# Altium footprint library NeoIVClock.PcbLib: 43 footprints (part 2 of 3)
Each footprint in its own frame and in the unit in brackets; x right, y up, seen from the top. Pads: shape width x height; smd on the part's side, far side on the other; paste and mask are expansions set on the pad; w line width, h text height; cw(c..) or ccw(c..) is an arc to the next point about the centre after c.
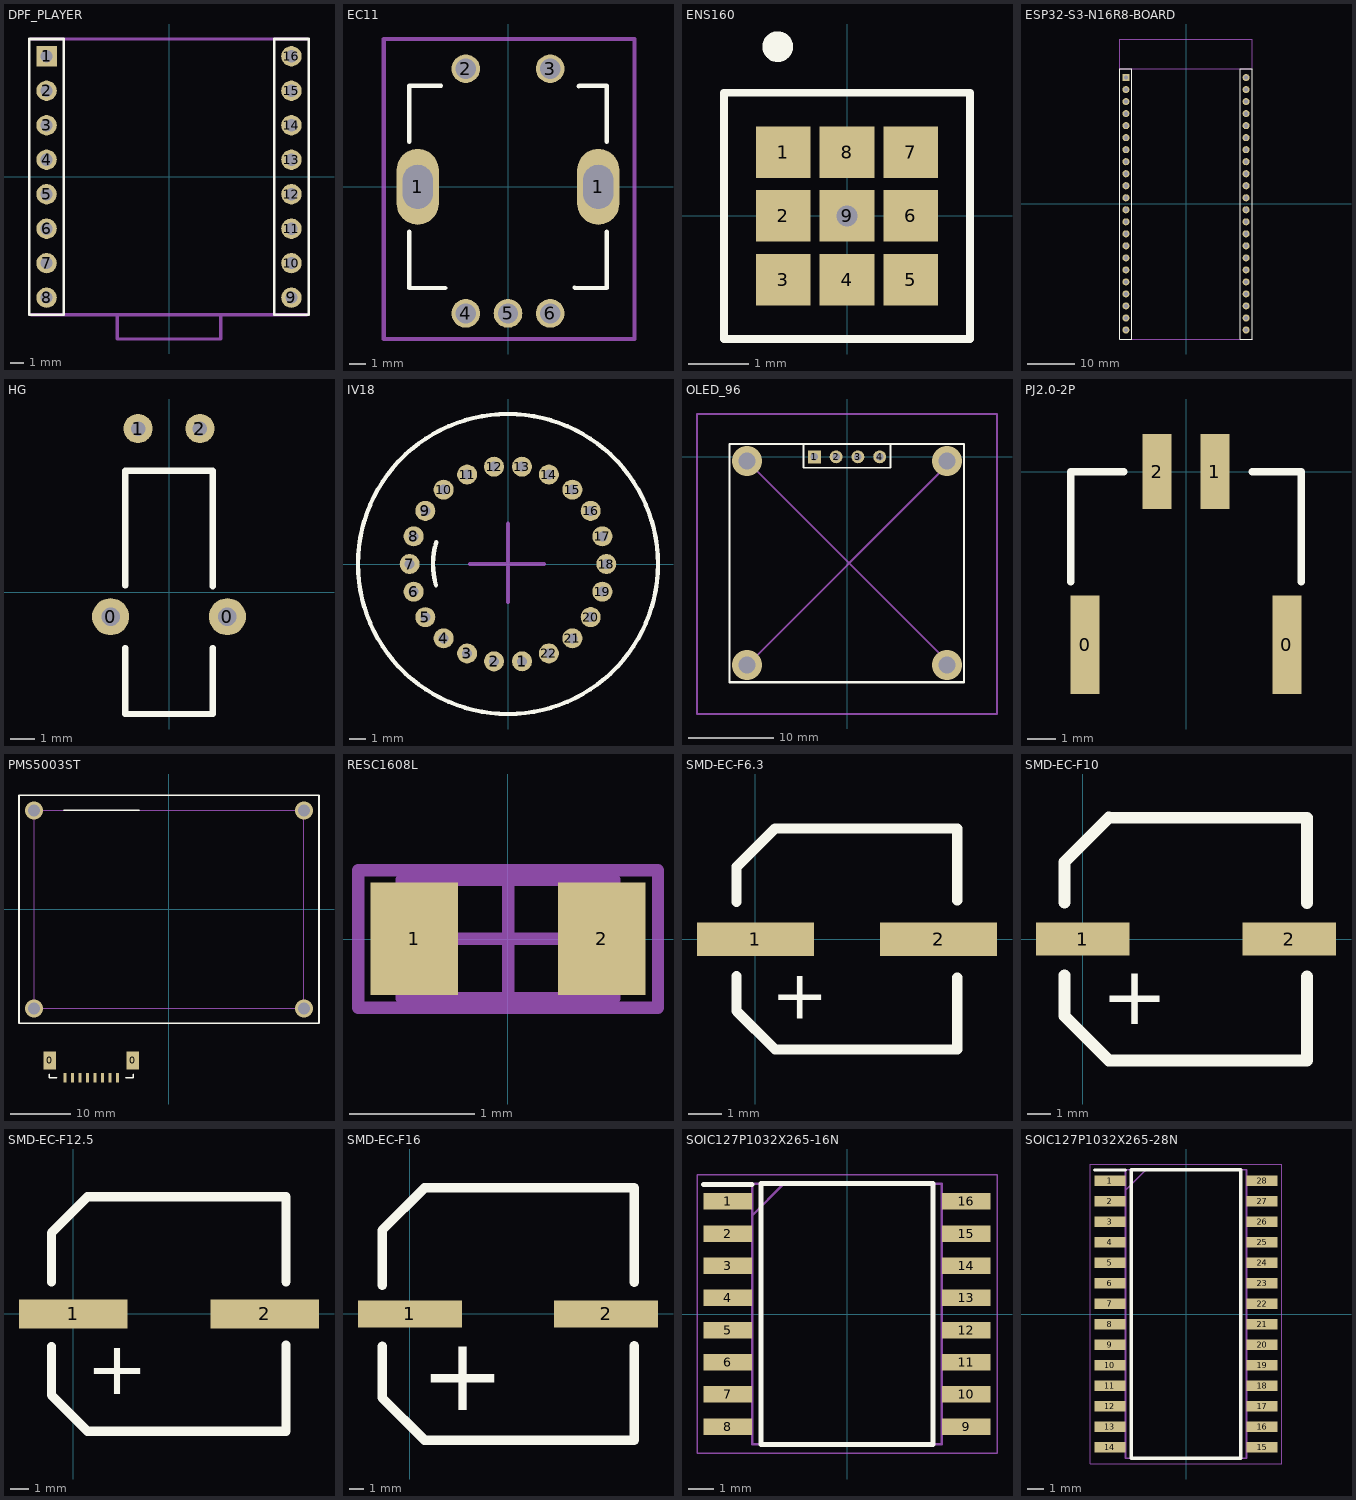
[diagram p1: the footprints below, top view; thin cyan lines are the x and y axes]

## DPF_PLAYER [mm] "DPF_PLAYER"
pads (16):
  rect 1.5x1.5 hole 0.9: 1(-9.017,8.89)
  round 1.5 hole 0.9: 2(-9.017,6.35) 3(-9.017,3.81) 4(-9.017,1.27) 5(-9.017,-1.27) 6(-9.017,-3.81) 7(-9.017,-6.35) 8(-9.017,-8.89) 9(9.017,-8.89) 10(9.017,-6.35) 11(9.017,-3.81) 12(9.017,-1.27) 13(9.017,1.27) 14(9.017,3.81) 15(9.017,6.35) 16(9.017,8.89)
Top Overlay:
  lines w0.2: -10.287,-10.16 -10.287,10.16 -7.747,10.16 -7.747,-10.16 -10.287,-10.16 ; 7.747,-10.16 10.287,-10.16 10.287,10.16 7.747,10.16 7.747,-10.16
Mechanical 1:
  lines w0.254: -10.16,-10.16 10.16,-10.16 ; -10.16,10.16 10.16,10.16 ; -3.81,-10.16 -3.81,-11.938 3.81,-11.938 3.81,-10.16

## EC11 [mm] "EC11"
pads (7):
  oval 2.5x4.5 hole 1.8 slot 2.6 at 90 deg: 1(-5.35,0) 1(5.35,0)
  round 1.7 hole 1.2: 2(-2.5,7) 3(2.5,7) 4(-2.5,-7.5) 5(0,-7.5) 6(2.5,-7.5)
Top Overlay:
  lines w0.254: -5.85,-2.667 -5.85,-6 -3.714,-6 ; -5.85,2.667 -5.85,6 -3.968,6 ; 3.937,-5.969 3.968,-6 5.85,-6 5.85,-2.667 ; 4.191,5.969 4.222,6 5.85,6 5.85,2.667
Mechanical 15:
  lines w0.254: -7.366,-9.017 7.493,-9.017 7.493,8.763 -7.366,8.763 -7.366,-9.017
3D body: height 5, standoff 0, extent -5.842,-5.969 5.842,5.969

## ENS160 [mm]
pads (9):
  rect 0.9x0.85 smd mask+0: 1(-1.05,1.05) 2(-1.05,0) 3(-1.05,-1.05) 4(0,-1.05) 5(1.05,-1.05) 6(1.05,0) 7(1.05,1.05) 8(0,1.05) 9(0,0)
via 0,0 diameter 0.61 hole 0.35
Top Overlay:
  circle w0.254: c-1.143,2.794 r0.127
  lines w0.127: -2.032,-2.032 2.032,-2.032 2.032,2.032 -2.032,2.032 -2.032,-2.032
3D body: height 0.9, standoff 0, extent -1.651,-1.778 1.651,1.778

## ESP32-S3-N16R8-BOARD [mm]
pads (44):
  rect 1.5x1.5 hole 0.9: 1(-12.7,26.67)
  round 1.5 hole 0.9: 2(-12.7,24.13) 3(-12.7,21.59) 4(-12.7,19.05) 5(-12.7,16.51) 6(-12.7,13.97) 7(-12.7,11.43) 8(-12.7,8.89) 9(-12.7,6.35) 10(-12.7,3.81) 11(-12.7,1.27) 12(-12.7,-1.27) 13(-12.7,-3.81) 14(-12.7,-6.35) 15(-12.7,-8.89) 16(-12.7,-11.43) 17(-12.7,-13.97) 18(-12.7,-16.51) 19(-12.7,-19.05) 20(-12.7,-21.59) 21(-12.7,-24.13) 22(-12.7,-26.67) 23(12.7,-26.67) 24(12.7,-24.13) 25(12.7,-21.59) 26(12.7,-19.05) 27(12.7,-16.51) 28(12.7,-13.97) 28(12.7,-11.43) 30(12.7,-8.89) 31(12.7,-6.35) 32(12.7,-3.81) 33(12.7,-1.27) 34(12.7,1.27) 35(12.7,3.81) 36(12.7,6.35) 37(12.7,8.89) 38(12.7,11.43) 39(12.7,13.97) 40(12.7,16.51) 41(12.7,19.05) 42(12.7,21.59) 43(12.7,24.13) 44(12.7,26.67)
Top Overlay:
  lines w0.2: -13.97,-28.575 -13.97,28.575 -11.43,28.575 -11.43,26.035 -11.43,-28.575 -13.97,-28.575 ; 11.43,-28.575 11.43,28.575 13.97,28.575 13.97,26.035 13.97,-28.575 11.43,-28.575
  lines w0.254: -13.97,-28.575 -13.97,28.575 ; 13.97,-28.575 13.97,28.575
Mechanical 1:
  lines w0.254: -13.97,-28.575 13.97,-28.575 ; -13.97,28.575 13.97,28.575 13.97,34.823 -13.97,34.823 -13.97,28.575

## HG [mm] "HG Switch"
pads (4):
  round 1.524 hole 0.762: 0(-2.4,-1) 0(2.4,-1)
  round 1.2 hole 0.6: 1(-1.27,6.731) 2(1.27,6.731)
Top Overlay:
  lines w0.254: -1.8,-2.286 -1.8,-5 1.8,-5 1.778,-4.978 ; -1.8,0.276 -1.8,5 1.8,5 1.8,0.254 ; 1.8,-4.978 1.8,-2.286

## IV18 [mm] "IV18"
pads (22):
  round 1.2 hole 0.6: 1(0.84,-5.84) 2(-0.839,-5.84) 3(-2.45,-5.367) 4(-3.863,-4.459) 5(-4.963,-3.19) 6(-5.661,-1.663) 7(-5.9,0) 8(-5.661,1.662) 9(-4.964,3.189) 10(-3.864,4.459) 11(-2.451,5.367) 12(-0.84,5.84) 13(0.839,5.84) 14(2.451,5.367) 15(3.864,4.459) 16(4.963,3.19) 17(5.661,1.662) 18(5.9,0) 19(5.661,-1.661) 20(4.964,-3.189) 21(3.864,-4.458) 22(2.452,-5.367)
Top Overlay:
  circle w0.254: c0,0 r9
  lines w0.254: -4.318,-1.27 cw(c0,0) -4.307,1.305
Mechanical 15:
  lines w0.254: -2.286,0 0,0 ; 0,-2.286 0,0 ; 0,2.413 0,0 ; 2.159,0 0,0

## OLED_96 [mm] "OLED_96"
pads (4):
  rect 1.5x1.5 hole 0.9: 1(-3.81,0)
  round 1.5 hole 0.9: 2(-1.27,0) 3(1.27,0) 4(3.81,0)
via 11.65,-24.3 diameter 3.5 hole 2
via -11.65,-24.3 diameter 3.5 hole 2
via 11.65,-0.5 diameter 3.5 hole 2
via -11.65,-0.5 diameter 3.5 hole 2
Top Overlay:
  lines w0.2: -5.08,-1.27 -5.08,1.524 5.08,1.524 5.08,-1.27 -5.08,-1.27
  lines w0.254: -13.716,-26.3 -13.716,1.5 ; -13.65,-26.3 13.65,-26.3 13.65,1.5 -13.65,1.5
Mechanical 15:
  lines w0.254: -11.65,-24.3 11.65,-1 11.65,-0.5 ; -11.65,-1 -11.65,-0.5 11.65,-23.8 11.65,-24.3 ; -17.5,-30 17.5,-30 17.5,5 -17.5,5 -17.5,-30
3D body: height 2.7, standoff 0, extent -13.716,-26.289 13.716,1.567

## PJ2.0-2P [mm] "PJ2.0-2P"
pads (4):
  rect 1x3.4 smd: 0(-3.5,-6) 0(3.5,-6)
  rect 1x2.6 smd: 1(1,0) 2(-1,0)
Top Overlay:
  lines w0.254: -4,-3.81 -4,0 -2.159,0 ; 2.286,0 3.968,0 ; 4,-3.81 4,0
3D body: height 5.7, standoff 0, extent -3.937,-7.493 3.937,0

## PMS5003ST [mm]
pads (10):
  rect 2.1x3 smd: 0(-19.879,-25.146) 0(-6.029,-25.146)
  rect 0.5x1.6 smd: 1(-17.329,-28.046) 2(-16.079,-28.046) 3(-14.829,-28.046) 4(-13.579,-28.046) 5(-12.329,-28.046) 6(-11.079,-28.046) 7(-9.829,-28.046) 8(-8.579,-28.046)
via 22.5,16.5 diameter 3 hole 2
via -22.5,16.5 diameter 3 hole 2
via -22.5,-16.5 diameter 3 hole 2
via 22.5,-16.5 diameter 3 hole 2
Top Overlay:
  lines w0.254: -19.939,-27.432 -19.939,-28.067 -18.669,-28.067 ; -17.526,16.51 -4.953,16.51 ; -7.239,-28.067 -5.969,-28.067 -5.969,-27.432 ; -25,-19 25,-19 25,19 -25,19 -25,-19
Mechanical 15:
  lines w0.127: -22.5,-16.5 22.5,-16.5 22.5,16.5 -22.5,16.5 -22.5,-16.5

## RESC1608L [mm] "Chip Resistor, Body 1.6x0.8mm, IPC High Density"
height 0.6
pads (2):
  rect 0.7x0.9 smd: 1(-0.75,0) 2(0.75,0)
Mechanical 13:
  lines w0.1: -0.85,-0.475 0.85,-0.475 0.85,0.475 -0.85,0.475 -0.85,-0.475
Mechanical 15:
  lines w0.1: -0.475,0 0.475,0 ; 0,-0.475 0,0.475 ; -1.2,-0.55 1.2,-0.55 1.2,0.55 -1.2,0.55 -1.2,-0.55
3D body: height 0.6, standoff 0, extent -0.85,-0.475 0.85,0.475

## SMD-EC-F6.3 [mm]
pads (2):
  rect 3.5x1 smd: 1(0,0) 2(5.475,0)
Top Overlay:
  lines w0.305: -0.564,-1.103 -0.564,-2.152 0.587,-3.303 ; -0.564,1.11 -0.564,2.163 0.587,3.314 ; 0.589,-3.305 6.036,-3.305 6.036,-1.15 ; 0.592,3.309 6.036,3.309 6.036,1.16
  text "+" at 0.472,-2.377 h1.5

## SMD-EC-F10 [mm]
pads (2):
  rect 4x1.4 smd: 1(0,0) 2(8.86,0)
Top Overlay:
  lines w0.508: -0.778,-1.551 -0.778,-3.304 1.12,-5.201 9.62,-5.201 9.62,-1.6 ; -0.778,1.572 -0.778,3.306 1.12,5.203 ; 1.123,5.2 9.62,5.2 9.62,1.548
  text "+" at 0.798,-3.656 h2.5

## SMD-EC-F12.5 [mm]
pads (2):
  rect 6x1.6 smd: 1(0,0) 2(10.625,0)
Top Overlay:
  lines w0.508: -1.202,-1.796 -1.202,-4.498 0.799,-6.499 11.797,-6.499 11.797,-1.72 ; -1.202,1.77 -1.202,4.494 0.797,6.493 0.799,6.495 11.797,6.495 11.797,1.781
  text "+" at 0.726,-4.45 h3

## SMD-EC-F16 [mm]
pads (2):
  rect 7x1.8 smd: 1(0,0) 2(13.215,0)
Top Overlay:
  lines w0.635: -1.877,-2.165 -1.877,-5.642 0.981,-8.5 15.123,-8.5 ; -1.877,1.93 -1.877,5.638 0.981,8.497 15.123,8.497 15.122,8.496 15.122,2.145 ; 15.122,-8.499 15.123,-8.5 ; 15.123,-2.131 15.123,-8.5
  text "+" at 0.702,-6.494 h5

## SOIC127P1032X265-16N [mm]
pads (16):
  rect 1.925x0.65 smd: 1(-4.712,4.445) 2(-4.712,3.175) 3(-4.712,1.905) 4(-4.712,0.635) 5(-4.712,-0.635) 6(-4.712,-1.905) 7(-4.712,-3.175) 8(-4.712,-4.445) 9(4.712,-4.445) 10(4.712,-3.175) 11(4.712,-1.905) 12(4.712,-0.635) 13(4.712,0.635) 14(4.712,1.905) 15(4.712,3.175) 16(4.712,4.445)
Top Overlay:
  lines w0.2: -5.675,5.12 -3.75,5.12 ; -3.4,-5.15 -3.4,5.15 3.4,5.15 3.4,-5.15 -3.4,-5.15
Mechanical 15:
  lines w0.1: -3.75,3.88 -2.48,5.15 ; -3.75,-5.15 -3.75,5.15 3.75,5.15 3.75,-5.15 -3.75,-5.15
Mechanical 20:
  lines w0.05: -5.925,-5.5 -5.925,5.5 5.925,5.5 5.925,-5.5 -5.925,-5.5

## SOIC127P1032X265-28N [mm]
pads (28):
  rect 1.925x0.65 smd: 1(-4.712,8.255) 2(-4.712,6.985) 3(-4.712,5.715) 4(-4.712,4.445) 5(-4.712,3.175) 6(-4.712,1.905) 7(-4.712,0.635) 8(-4.712,-0.635) 9(-4.712,-1.905) 10(-4.712,-3.175) 11(-4.712,-4.445) 12(-4.712,-5.715) 13(-4.712,-6.985) 14(-4.712,-8.255) 15(4.712,-8.255) 16(4.712,-6.985) 17(4.712,-5.715) 18(4.712,-4.445) 19(4.712,-3.175) 20(4.712,-1.905) 21(4.712,-0.635) 22(4.712,0.635) 23(4.712,1.905) 24(4.712,3.175) 25(4.712,4.445) 26(4.712,5.715) 27(4.712,6.985) 28(4.712,8.255)
Top Overlay:
  lines w0.2: -5.675,8.93 -3.75,8.93 ; -3.4,-8.95 3.4,-8.95 3.4,8.95 -3.4,8.95 -3.4,-8.95
Mechanical 15:
  lines w0.1: -3.75,7.68 -2.48,8.95 ; -3.75,-8.95 3.75,-8.95 3.75,8.95 -3.75,8.95 -3.75,-8.95
Mechanical 20:
  lines w0.05: -5.925,-9.3 5.925,-9.3 5.925,9.3 -5.925,9.3 -5.925,-9.3